# EAGLE library part 61003221121 (library Wuerth_Elektronik_eiCan_Pin_&_Socked_Headers_v1.3)
WR-PHD 2.54mm Dual SMT Pin Header, 32 Pins
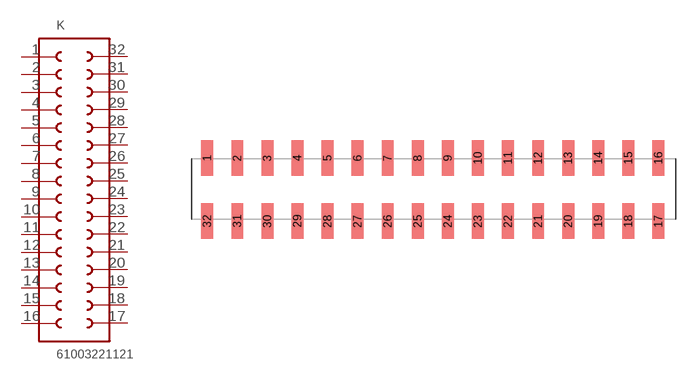
[diagram p103: symbol with the pads of 61003221121; footprint 61003221121]

Designator prefix K

## 61003221121  [61003221121]
1  1  pas
2  2  pas
3  3  pas
4  4  pas
5  5  pas
6  6  pas
7  7  pas
8  8  pas
9  9  pas
10  10  pas
11  11  pas
12  12  pas
13  13  pas
14  14  pas
15  15  pas
16  16  pas
17  17  pas
18  18  pas
19  19  pas
20  20  pas
21  21  pas
22  22  pas
23  23  pas
24  24  pas
25  25  pas
26  26  pas
27  27  pas
28  28  pas
29  29  pas
30  30  pas
31  31  pas
32  32  pas

## Footprint 61003221121 (pad centres in mm)
WR-PHD 2.54mm Dual SMT Pin Header, 32 Pins
smd 1 x 3: 1 -19.05,2.54; 2 -16.51,2.54; 3 -13.97,2.54; 4 -11.43,2.54; 5 -8.89,2.54; 6 -6.35,2.54; 7 -3.81,2.54; 8 -1.27,2.54; 9 1.27,2.54; 10 3.81,2.54; 11 6.35,2.54; 12 8.89,2.54; 13 11.43,2.54; 14 13.97,2.54; 15 16.51,2.54; 16 19.05,2.54; 17 19.05,-2.79; 18 16.51,-2.79; 19 13.97,-2.79; 20 11.43,-2.79; 21 8.89,-2.79; 22 6.35,-2.79; 23 3.81,-2.79; 24 1.27,-2.79; 25 -1.27,-2.79; 26 -3.81,-2.79; 27 -6.35,-2.79; 28 -8.89,-2.79; 29 -11.43,-2.76; 30 -13.97,-2.79; 31 -16.51,-2.76; 32 -19.05,-2.76